# Altium schematic symbol library SCH - INTERFACE - MICROCHIP USB3503.SCHLIB: 2 symbols
Pins are listed as number, name and electrical type; pins without a type are passive.

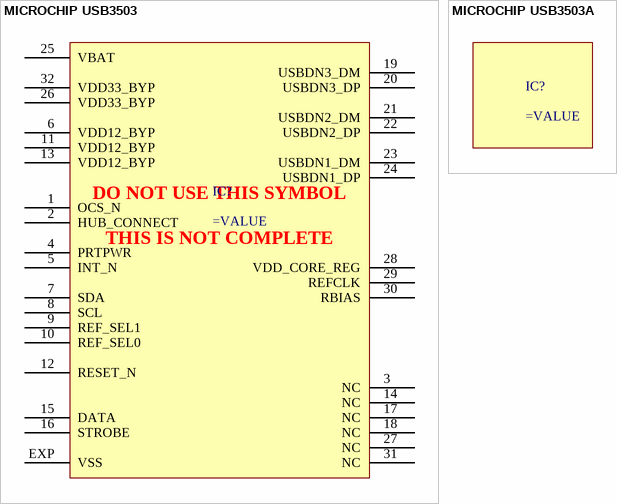
[diagram p0: symbols MICROCHIP USB3503 to MICROCHIP USB3503A]

## MICROCHIP USB3503
designator IC?
pins: 1 OCS_N "Over Current Sense Input", 2 HUB_CONNECT "Hub Connect", 3 NC "No connection", 4 PRTPWR "Port Power Control Output", 5 INT_N "Active low interrupt signal", 6 VDD12_BYP "1.2V Regulator", 7 SDA "I2C data input/output", 8 SCL "I2C clock input", 9 REF_SEL1 "Reference Clock Select 1 input", 10 REF_SEL0 "Reference Clock Select 0 input", 11 VDD12_BYP "1.2V Regulator", 12 RESET_N "Active low reset signal", 13 VDD12_BYP "1.2V Regulator", 14 NC "No connection", 15 DATA "Upstream HSIC DATA pin of the USB Interface", 16 STROBE "Upstream HSIC STROBE pin of the USB Interface", 17 NC "No connection", 18 NC "No connection", 19 USBDN3_DM "USB downstream Port 3 D- data pin", 20 USBDN3_DP "USB downstream Port 3 D+ data pin", 21 USBDN2_DM "USB downstream Port 2 D- data pin", 22 USBDN2_DP "USB downstream Port 2 D+ data pin", 23 USBDN1_DM "USB downstream Port 1 D- data pin", 24 USBDN1_DP "USB downstream Port 1 D+ data pin", 25 VBAT "Voltage input from the battery supply", 26 VDD33_BYP "3.3V Regulator", 27 NC "No connection", 28 VDD_CORE_REG "Power supply input to 1.2V regulator for digital logic core", 29 REFCLK "Reference Clock input", 30 RBIAS "Bias Resistor pin", 31 NC "No connection", 32 VDD33_BYP "3.3V Regulator Bypass", EXP VSS "Ground"
text: DO NOT USE THIS SYMBOL; THIS IS NOT COMPLETE

## MICROCHIP USB3503A
designator IC?